# Altium footprint library Battery_PSU.PcbLib: 33 footprints (part 2 of 3)
Each footprint in its own frame and in the unit in brackets; x right, y up, seen from the top. Pads: shape width x height; smd on the part's side, far side on the other; paste and mask are expansions set on the pad; w line width, h text height; cw(c..) or ccw(c..) is an arc to the next point about the centre after c.
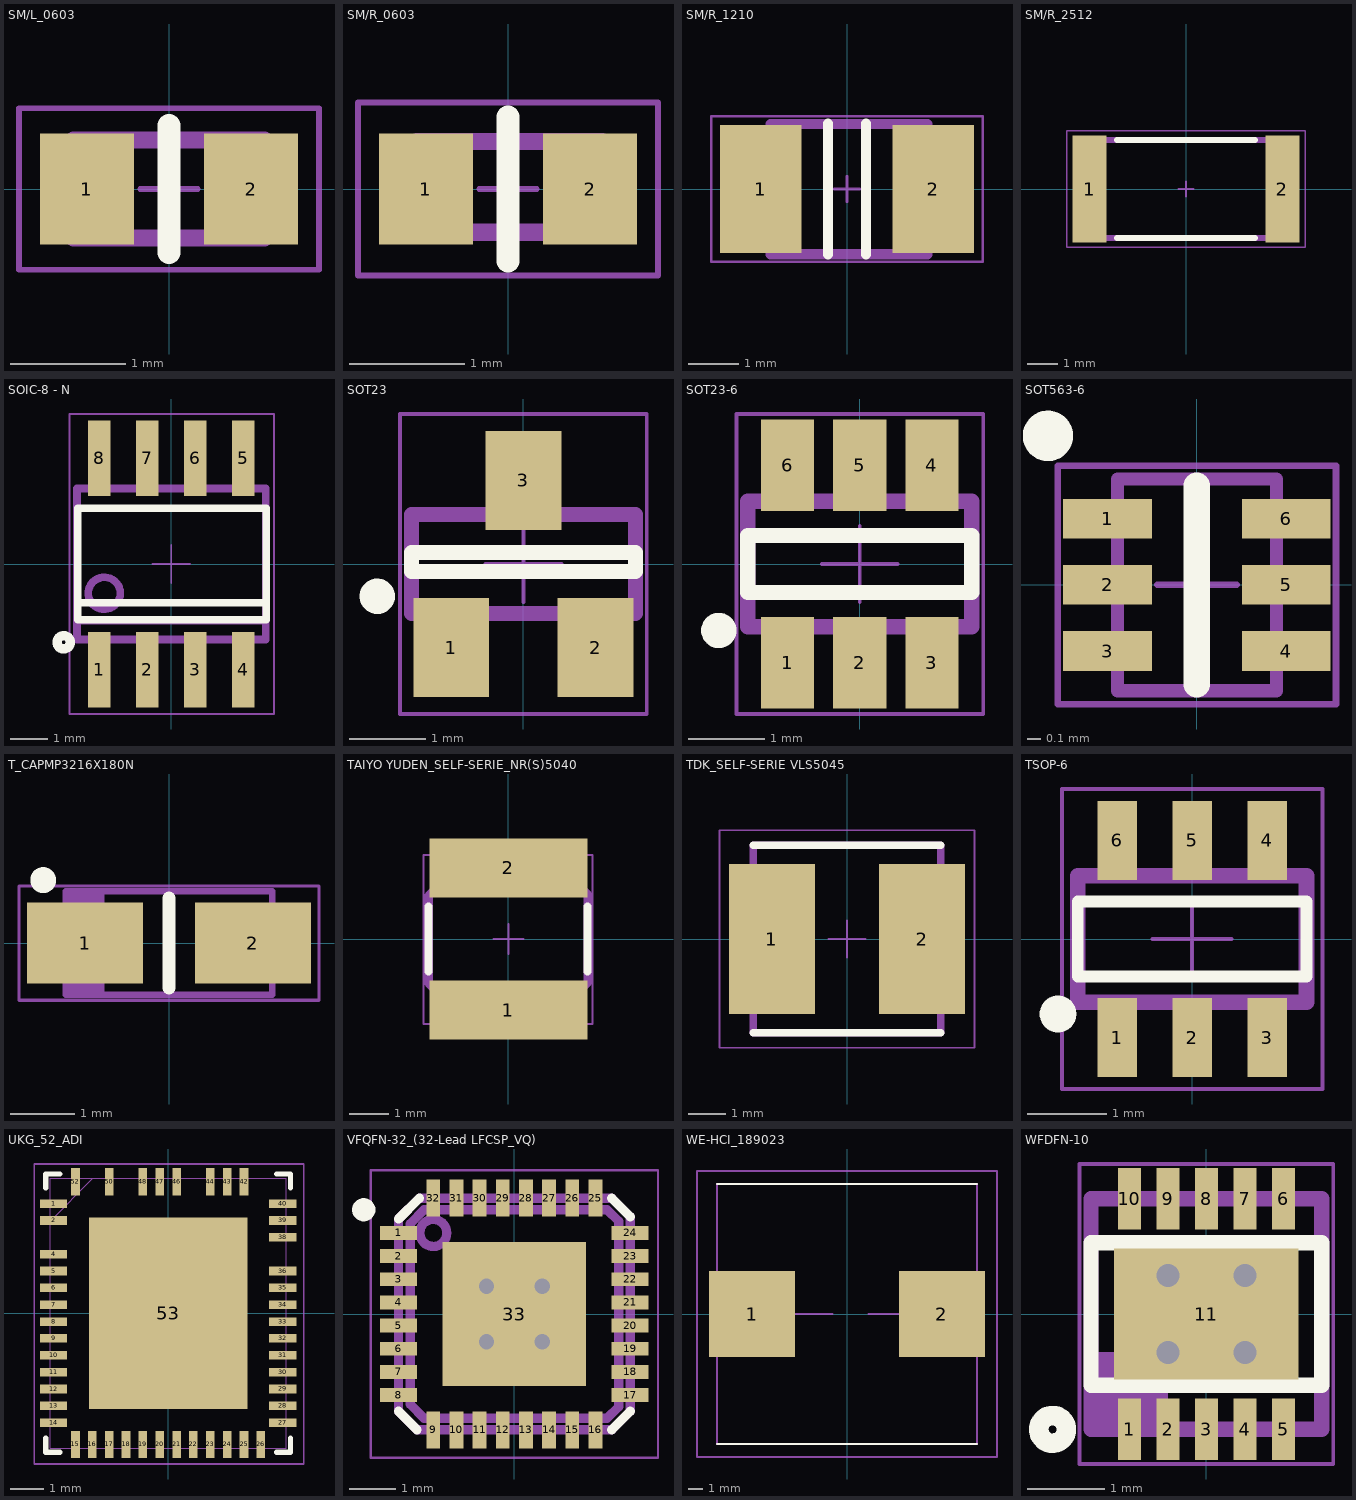
[diagram p1: the footprints below, top view; thin cyan lines are the x and y axes]

## SM/L_0603 [mil]
height 452.76
pads (2):
  rect 32x38 smd: 1(-28,0) 2(28,0)
Top Overlay:
  lines w7.87: 0,-21.65 0,21.65
Mechanical 11:
  lines w5.91: -32.48,-16.73 -32.48,16.73 32.48,16.73 32.48,-16.73 -32.48,-16.73
  text ".designator" at -102.36,36.42 h39.37
Mechanical 13:
  lines w5.91: -32.48,-16.73 32.48,-16.73 32.48,16.73 -32.48,16.73 -32.48,-16.73
Mechanical 15:
  lines w1.97: 0,0 0,9.84 0,0 ; 0,0 -9.84,0 0,0 ; 0,0 9.84,0 0,0 ; 0,0 0,-9.84 0,0 ; -51.18,-27.56 -51.18,27.56 51.18,27.56 51.18,-27.56 -51.18,-27.56
3D body "Chip Inductor 0603 (Noir).stp": height 30.31, standoff -1.18, extent -31.5,-18.7 31.49,18.7

## SM/R_0603 [mil]
height 452.76
pads (2):
  rect 32x38 smd: 1(-28,0) 2(28,0)
Top Overlay:
  lines w7.87: 0,-24.61 0,24.61
Mechanical 11:
  lines w5.91: -30.95,-14.76 -30.95,16.24 32.05,16.24 32.05,-14.76 -30.95,-14.76
  text ".designator" at -102.36,36.42 h39.37
Mechanical 13:
  lines w5.91: -30.95,-14.76 32.05,-14.76 32.05,16.24 -30.95,16.24 -30.95,-14.76
Mechanical 15:
  lines w1.97: 0,0 0,9.84 0,0 ; 0,0 -9.84,0 0,0 ; 0,0 9.84,0 0,0 ; 0,0 0,-9.84 0,0 ; -51.18,-29.53 -51.18,29.53 51.18,29.53 51.18,-29.53 -51.18,-29.53
3D body "User Library-res0603_.STEP": height 20.79, standoff 0.79, extent -30.96,-15.77 32.04,16.23

## SM/R_1210 [mil]
pads (2):
  rect 64x100 smd: 1(-67.5,0) 2(67.5,0)
Top Overlay:
  lines w7.87: -14.76,-51.18 -14.76,51.18 ; 14.76,-51.18 14.76,51.18
Mechanical 11:
  lines w7.87: -60.04,-51.11 -60.04,50.89 63.02,50.89 63.02,-51.11 -60.04,-51.11
  text ".designator" at -110.24,65.94 h39.37
Mechanical 13:
  lines w7.87: -60.04,-51.11 63.02,-51.11 63.02,50.89 -60.04,50.89 -60.04,-51.11
Mechanical 15:
  lines w1.97: 0,0 0,9.84 0,0 ; 0,0 -9.84,0 0,0 ; 0,0 9.84,0 0,0 ; 0,0 0,-9.84 0,0 ; -106.3,-57.09 -106.3,57.09 106.3,57.09 106.3,-57.09 -106.3,-57.09
3D body "User Library-res1210_.STEP": height 24.79, standoff 0.79, extent -62.98,-51.11 63.02,50.89

## SM/R_2512 [mm] "Chip Resistor 2512(6332), Body 6.3x3.2mm, IPC Medium Density"
height 4
pads (2):
  rect 1.1x3.5 smd: 1(-3.15,0) 2(3.15,0)
Top Overlay:
  lines w0.2: -2.25,-1.6 2.25,-1.6 ; -2.25,1.6 2.25,1.6
Mechanical 11:
  lines w0.2: -3.15,-1.6 3.16,-1.6 3.16,1.6 -3.15,1.6 -3.15,-1.6
  text ".designator" at -2.725,-0.325 h1
Mechanical 13:
  lines w0.2: -3.15,-1.6 -3.15,1.6 3.16,1.6 3.16,-1.6 -3.15,-1.6
Mechanical 15:
  lines w0.05: 0,0 0,0.25 0,0 ; 0,0 -0.25,0 0,0 ; 0,0 0.25,0 0,0 ; 0,0 0,-0.25 0,0 ; -3.9,-1.9 3.9,-1.9 3.9,1.9 -3.9,1.9 -3.9,-1.9
3D body "RES2512.step": height 0.62, standoff 0, extent -3.16,-1.6 3.16,1.6

## SOIC-8 - N [mm] "SOIC-8 / Body 5x4x1.75mm / Pitch 1.27mm  / 8 Pins"
height 1.75
pads (8):
  rect 0.6x2 smd: 1(-1.905,-2.8) 2(-0.635,-2.8) 3(0.635,-2.8) 4(1.905,-2.8) 5(1.905,2.8) 6(0.635,2.8) 7(-0.635,2.8) 8(-1.905,2.8)
Top Overlay:
  circle w0.25: c-2.85,-2.075 r0.175
  lines w0.203: -2.425,-1.025 2.475,-1.025 ; -2.48,-1.475 2.52,-1.475 2.52,1.475 -2.48,1.475 -2.48,-1.475
Mechanical 11:
  circle w0.203: c-1.774,-0.775 r0.424
  lines w0.203: -2.495,-1.5 2.5,-1.5 ; -2.5,-2 -2.5,2 2.5,2 2.5,-2 -2.5,-2
  text ".Designator" at -3.6,-0.325 h1
Mechanical 13:
  circle w0.203: c-1.774,-0.775 r0.424
  lines w0.203: -2.495,-1.5 2.5,-1.5 ; -2.5,-2 2.5,-2 2.5,2 -2.5,2 -2.5,-2
Mechanical 15:
  lines w0.05: -0.5,0 0.5,0 ; 0,-0.5 0,0.5 ; -2.7,-3.975 -2.7,3.975 2.725,3.975 2.725,-3.975 -2.7,-3.975
3D body "SOIC-8 - N.STEP": height 1.7, standoff 0, extent -2.45,-3 2.45,3
3D body "SOIC-8 - N.STEP": height 1.7, standoff 0, extent -2.45,-3 2.45,3

## SOT23 [mm] "IC Package SOT23- Body 2.9x1.3x0.95mm"
height 0.95
pads (3):
  rect 1x1.3 smd: 1(-0.95,-1.1) 2(0.95,-1.1) 3(0,1.1)
Top Overlay:
  circle w0.254: c-1.925,-0.425 r0.106
  lines w0.2: -1.475,-0.1 1.475,-0.1 1.475,0.15 -1.475,0.15 -1.475,-0.1
Mechanical 11:
  text ".designator" at -2.96,-0.225 h1
Mechanical 13:
  lines w0.2: -1.475,-0.65 1.475,-0.65 1.475,0.65 -1.475,0.65 -1.475,-0.65
Mechanical 15:
  lines w0.05: -0.5,0 0.5,0 ; 0,-0.5 0,0.5 ; -1.625,-1.975 -1.625,1.975 1.625,1.975 1.625,-1.975 -1.625,-1.975
3D body "SOT23.step": height 1, standoff 0, extent -1.46,-1.17 1.46,1.17

## SOT23-6 [mm] "IC Package SOT23-6- Body 2.9x1.6x1.45mm"
height 1.45
pads (6):
  rect 0.7x1.2 smd: 1(-0.95,-1.3) 2(0,-1.3) 3(0.95,-1.3) 4(0.95,1.3) 5(0,1.3) 6(-0.95,1.3)
Top Overlay:
  circle w0.254: c-1.856,-0.875 r0.106
  lines w0.2: -1.475,-0.375 -1.475,0.375 1.475,0.375 1.475,-0.375 -1.475,-0.375
Mechanical 11:
  text ".designator" at -2.96,-0.225 h1
Mechanical 13:
  lines w0.2: -1.475,-0.825 -1.475,0.825 1.475,0.825 1.475,-0.825 -1.475,-0.825
Mechanical 15:
  lines w0.05: -0.5,0 0.5,0 ; 0,-0.5 0,0.5 ; -1.625,-1.975 1.625,-1.975 1.625,1.975 -1.625,1.975 -1.625,-1.975
3D body "User Library-SOT23-6.STEP": height 1.3, standoff 0, extent -1.5,-1.5 1.5,1.5

## SOT563-6 [mm] "IC Package SOT553-6 - Body 1.6x1.2x0.6mm"
height 0.6
pads (6):
  rect 0.67x0.3 smd: 1(-0.675,0.5) 2(-0.675,0) 3(-0.675,-0.5) 4(0.675,-0.5) 5(0.675,0) 6(0.675,0.5)
Top Overlay:
  circle w0.2: c-1.125,1.125 r0.09
  lines w0.2: 0,-0.75 0,0.75
Mechanical 11:
  lines w0.1: -0.6,-0.8 0.6,-0.8 0.6,0.8 -0.6,0.8 -0.6,-0.8
  text ".designator" at -3.56,-0.35 h1
Mechanical 13:
  lines w0.1: -0.6,-0.8 -0.6,0.8 0.6,0.8 0.6,-0.8 -0.6,-0.8
Mechanical 15:
  lines w0.05: -0.3,0 0.3,0 ; 0,-0.3 0,0.3 ; -1.05,-0.9 -1.05,0.9 1.05,0.9 1.05,-0.9 -1.05,-0.9
3D body "NTZD3154NT1G.stp": height 0.6, standoff 0, extent -0.8,-0.8 0.8,0.8

## T_CAPMP3216X180N [mm]
height 1.6
pads (2):
  rect 1.8x1.25 smd: 1(-1.3,0) 2(1.3,0)
Top Overlay:
  circle w0.3: c-1.95,0.975 r0.05
  lines w0.2: 0,-0.699 0,0.699
Mechanical 11:
  lines w0.1: -1.55,-0.8 -1.55,0.8 ; -1.45,-0.8 -1.45,0.8 ; -1.35,-0.8 -1.35,0.8 ; -1.25,-0.8 -1.25,0.8 ; -1.15,-0.8 -1.15,0.8 ; -1.05,-0.8 -1.05,0.8 ; -1.6,-0.8 -1.6,0.8 1.6,0.8 1.6,-0.8 -1.6,-0.8
Mechanical 13:
  lines w0.001: -1.6,-0.8 -1.6,0.8 1.6,0.8 1.6,-0.8 -1.6,-0.8
Mechanical 15:
  lines w0.05: -2.325,-0.886 2.325,-0.886 2.325,0.886 -2.325,0.886 -2.325,-0.886
3D body: height 1.6, standoff 0, extent -1.6,-0.8 -1,0.8
3D body: height 1.6, standoff 0, extent -1,-0.8 1.6,0.8

## TAIYO YUDEN_SELF-SERIE_NR(S)5040 [mm] "INDUCTOR TAIYO YUDEN SERIES NR(S)5040 SMD"
height 4.1
pads (2):
  rect 4x1.5 smd: 1(0,-1.8) 2(0,1.8)
Top Overlay:
  lines w0.2: -2.025,-0.825 -2.025,0.825 ; 2,-0.825 2,0.825
Mechanical 11:
  lines w0.2: -2.012,-1.125 -2.012,1.1 -1.487,1.625 -1.487,2 1.488,2 1.488,1.65 2.013,1.125 2.013,-1.1 1.513,-1.6 1.513,-2 -1.487,-2 -1.487,-1.65 -2.012,-1.125
  text ".designator" at -2.8,-0.35 h1
Mechanical 13:
  lines w0.2: -2.025,-1.125 -2.025,1.1 -1.5,1.625 -1.5,2 1.475,2 1.475,1.65 2,1.125 2,-1.1 1.5,-1.6 1.5,-2 -1.5,-2 -1.5,-1.65 -2.025,-1.125
Mechanical 15:
  lines w0.05: -0.375,0 0.375,0 ; 0,-0.375 0,0.375 ; -2.15,-2.15 2.125,-2.15 2.125,2.125 -2.15,2.125 -2.15,-2.15
3D body: height 0.25, standoff 0, extent -2.025,-2 2,2

## TDK_SELF-SERIE VLS5045 [mm]
pads (2):
  rect 2.3x4 smd: 1(-2,0) 2(2,0)
Top Overlay:
  lines w0.2: -2.5,-2.5 2.5,-2.5 ; -2.5,2.5 2.5,2.5
Mechanical 11:
  lines w0.2: -2.5,-2.5 -2.5,2.5 2.5,2.5 2.5,-2.5 -2.5,-2.5
  text ".designator" at -4.45,-0.45 h1
Mechanical 13:
  lines w0.2: -2.5,-2.5 -2.5,2.5 2.5,2.5 2.5,-2.5 -2.5,-2.5
Mechanical 15:
  lines w0.05: -0.5,0 0.5,0 ; 0,-0.5 0,0.5 ; -3.4,-2.9 -3.4,2.9 3.4,2.9 3.4,-2.9 -3.4,-2.9
3D body "VLS5045EX-2R2N.stp": height 4.5, standoff 0, extent -2.5,-2.5 2.5,2.5

## TSOP-6 [mm] "IC Package SC70-6 (SOT363) - Body 2x1.25x1.1mm"
height 1.1
pads (6):
  rect 0.5x1 smd: 1(-0.95,-1.25) 2(0,-1.25) 3(0.95,-1.25) 4(0.95,1.25) 5(0,1.25) 6(-0.95,1.25)
Top Overlay:
  circle w0.254: c-1.7,-0.95 r0.106
  lines w0.15: -1.45,-0.475 -1.45,0.475 1.45,0.475 1.45,-0.475 -1.45,-0.475
Mechanical 11:
  lines w0.2: -1.45,-0.8 -1.45,0.8 1.45,0.8 1.45,-0.8 -1.45,-0.8
  text ".designator" at -2.925,-0.325 h1
Mechanical 13:
  lines w0.2: -1.45,-0.8 1.45,-0.8 1.45,0.8 -1.45,0.8 -1.45,-0.8
Mechanical 15:
  lines w0.05: -0.5,0 0.5,0 ; 0,-0.5 0,0.5 ; -1.65,-1.9 -1.65,1.9 1.65,1.9 1.65,-1.9 -1.65,-1.9
3D body "User Library-TSOP-6.STEP": height 1, standoff 0, extent -1.5,-1.35 1.5,1.35

## UKG_52_ADI [mm]
pads (47):
  rect 0.808x0.255 smd paste+0 mask+0: 1(-3.401,3.25) 2(-3.401,2.75) 4(-3.401,1.75) 5(-3.401,1.25) 6(-3.401,0.75) 7(-3.401,0.25) 8(-3.401,-0.25) 9(-3.401,-0.75) 10(-3.401,-1.25) 11(-3.401,-1.75) 12(-3.401,-2.25) 13(-3.401,-2.75) 14(-3.401,-3.25) 27(3.401,-3.25) 28(3.401,-2.75) 29(3.401,-2.25) 30(3.401,-1.75) 31(3.401,-1.25) 32(3.401,-0.75) 33(3.401,-0.25) 34(3.401,0.25) 35(3.401,0.75) 36(3.401,1.25) 38(3.401,2.25) 39(3.401,2.75) 40(3.401,3.25)
  rect 0.255x0.808 smd paste+0 mask+0: 15(-2.75,-3.896) 16(-2.25,-3.896) 17(-1.75,-3.896) 18(-1.25,-3.896) 19(-0.75,-3.896) 20(-0.25,-3.896) 21(0.25,-3.896) 22(0.75,-3.896) 23(1.25,-3.896) 24(1.75,-3.896) 25(2.25,-3.896) 26(2.75,-3.896) 42(2.25,3.896) 43(1.75,3.896) 44(1.25,3.896) 46(0.25,3.896) 47(-0.25,3.896) 48(-0.75,3.896) 50(-1.75,3.896) 52(-2.75,3.896)
  rect 4.699x5.69 smd paste-2.832 mask+0: 53(0,0)
Top Overlay:
  lines w0.152: -3.632,-3.71 -3.632,-4.127 -3.21,-4.127 ; -3.632,3.71 -3.632,4.127 -3.21,4.127 ; 3.21,-4.127 3.632,-4.127 3.632,-3.71 ; 3.21,4.127 3.632,4.127 3.632,3.71
Top Paste:
  region: 2.25,-1.522 0.883,-1.522 0.883,-2.745 2.25,-2.745
  region: 2.25,-0.1 0.883,-0.1 0.883,-1.322 2.25,-1.322
  region: 2.25,1.322 0.883,1.322 0.883,0.1 2.25,0.1
  region: 2.25,2.745 0.883,2.745 0.883,1.522 2.25,1.522
  region: 0.683,-1.522 -0.683,-1.522 -0.683,-2.745 0.683,-2.745
  region: 0.683,-0.1 -0.683,-0.1 -0.683,-1.322 0.683,-1.322
  region: 0.683,1.322 -0.683,1.322 -0.683,0.1 0.683,0.1
  region: 0.683,2.745 -0.683,2.745 -0.683,1.522 0.683,1.522
  region: -0.883,-1.522 -2.25,-1.522 -2.25,-2.745 -0.883,-2.745
  region: -0.883,-0.1 -2.25,-0.1 -2.25,-1.322 -0.883,-1.322
  region: -0.883,1.322 -2.25,1.322 -2.25,0.1 -0.883,0.1
  region: -0.883,2.745 -2.25,2.745 -2.25,1.522 -0.883,1.522
Mechanical 11:
  text ".designator" at -2.175,-0.325 h1
Mechanical 13:
  lines w0.025: -3.505,2.73 -2.235,4 ; -3.505,-4 -3.505,4 3.505,4 3.505,-4 -3.505,-4 ; -3.505,-3.402 -3.505,-3.098 -3.505,-3.402 ; -3.505,-2.902 -3.505,-2.598 -3.505,-2.902 ; -3.505,-2.402 -3.505,-2.098 -3.505,-2.402 ; -3.505,-1.902 -3.505,-1.598 -3.505,-1.902 ; -3.505,-1.402 -3.505,-1.098 -3.505,-1.402 ; -3.505,-0.902 -3.505,-0.598 -3.505,-0.902 ; -3.505,-0.402 -3.505,-0.098 -3.505,-0.402 ; -3.505,0.098 -3.505,0.402 -3.505,0.098 ; -3.505,0.598 -3.505,0.902 -3.505,0.598 ; -3.505,1.098 -3.505,1.402 -3.505,1.098 ; -3.505,1.598 -3.505,1.902 -3.505,1.598 ; -3.505,2.098 -3.505,2.402 -3.505,2.098 ; -3.505,2.598 -3.505,2.902 -3.505,2.598 ; -3.505,3.098 -3.505,3.402 -3.505,3.098 ; -2.902,-4 -2.598,-4 -2.902,-4 ; -2.902,4 -2.598,4 -2.902,4 ; -2.402,-4 -2.098,-4 -2.402,-4 ; -2.402,4 -2.098,4 -2.402,4 ; -1.902,-4 -1.598,-4 -1.902,-4 ; -1.902,4 -1.598,4 -1.902,4 ; -1.402,-4 -1.098,-4 -1.402,-4 ; -1.402,4 -1.098,4 -1.402,4 ; -0.902,-4 -0.598,-4 -0.902,-4 ; -0.902,4 -0.598,4 -0.902,4 ; -0.402,-4 -0.098,-4 -0.402,-4 ; -0.402,4 -0.098,4 -0.402,4 ; 0.098,-4 0.402,-4 0.098,-4 ; 0.098,4 0.402,4 0.098,4 ; 0.598,-4 0.902,-4 0.598,-4 ; 0.598,4 0.902,4 0.598,4 ; 1.098,-4 1.402,-4 1.098,-4 ; 1.098,4 1.402,4 1.098,4 ; 1.598,-4 1.902,-4 1.598,-4 ; 1.598,4 1.902,4 1.598,4 ; 2.098,-4 2.402,-4 2.098,-4 ; 2.098,4 2.402,4 2.098,4 ; 2.598,-4 2.902,-4 2.598,-4 ; 2.598,4 2.902,4 2.598,4 ; 3.505,-3.402 3.505,-3.098 3.505,-3.402 ; 3.505,-2.902 3.505,-2.598 3.505,-2.902 ; 3.505,-2.402 3.505,-2.098 3.505,-2.402 ; 3.505,-1.902 3.505,-1.598 3.505,-1.902 ; 3.505,-1.402 3.505,-1.098 3.505,-1.402 ; 3.505,-0.902 3.505,-0.598 3.505,-0.902 ; 3.505,-0.402 3.505,-0.098 3.505,-0.402 ; 3.505,0.098 3.505,0.402 3.505,0.098 ; 3.505,0.598 3.505,0.902 3.505,0.598 ; 3.505,1.098 3.505,1.402 3.505,1.098 ; 3.505,1.598 3.505,1.902 3.505,1.598 ; 3.505,2.098 3.505,2.402 3.505,2.098 ; 3.505,2.598 3.505,2.902 3.505,2.598 ; 3.505,3.098 3.505,3.402 3.505,3.098
Mechanical 15:
  lines w0.05: -3.975,-4.475 -3.975,4.425 4.025,4.425 4.025,-4.475 -3.975,-4.475
3D body "UKG_52_ADI.step": height 0.81, standoff 0, extent -3.5,-4 3.51,4
3D body: height 0.25, standoff 0, extent 0,0 0.254,0.254

## VFQFN-32_(32-Lead LFCSP_VQ) [mm] "IC Package VQFQFN-32 (32-Lead LFCSP_VQ)"
height 0.85
pads (33):
  rect 0.8x0.3 smd mask+0.1: 1(-2.5,1.75) 2(-2.5,1.25) 3(-2.5,0.75) 4(-2.5,0.25) 5(-2.5,-0.25) 6(-2.5,-0.75) 7(-2.5,-1.25) 8(-2.5,-1.75) 17(2.5,-1.75) 18(2.5,-1.25) 19(2.5,-0.75) 20(2.5,-0.25) 21(2.5,0.25) 22(2.5,0.75) 23(2.5,1.25) 24(2.5,1.75)
  rect 0.3x0.8 smd mask+0.1: 9(-1.75,-2.5) 10(-1.25,-2.5) 11(-0.75,-2.5) 12(-0.25,-2.5) 13(0.25,-2.5) 14(0.75,-2.5) 15(1.25,-2.5) 16(1.75,-2.5) 25(1.75,2.5) 26(1.25,2.5) 27(0.75,2.5) 28(0.25,2.5) 29(-0.25,2.5) 30(-0.75,2.5) 31(-1.25,2.5) 32(-1.75,2.5)
  rect 3.1x3.1 smd paste-2 mask+0.1: 33(0,0)
via -0.6,0.6 diameter 0.6 hole 0.33
via 0.6,0.6 diameter 0.6 hole 0.33
via -0.6,-0.6 diameter 0.6 hole 0.33
via 0.6,-0.6 diameter 0.6 hole 0.33
Top Overlay:
  circle w0.25: c-3.25,2.25 r0.125
  lines w0.2: -2.5,-2.1 -2.1,-2.5 ; -2.5,2.05 -2.05,2.5 ; 2.1,-2.5 2.5,-2.1 ; 2.1,2.5 2.5,2.1
Top Paste:
  region: -0.15,-1.35 -0.15,-0.15 -1.35,-0.15 -1.35,-1.35
  region: 0.15,1.35 0.15,0.15 1.35,0.15 1.35,1.35
  region: 0.15,-1.35 0.15,-0.15 1.35,-0.15 1.35,-1.35
  region: -0.15,1.35 -0.15,0.15 -1.35,0.15 -1.35,1.35
Mechanical 11:
  circle w0.2: c-1.75,1.75 r0.292
  lines w0.2: -2.5,-2.1 -2.5,2.05 -2.05,2.5 2.1,2.5 2.5,2.1 2.5,-2.1 2.1,-2.5 -2.1,-2.5 -2.5,-2.1 ; -2.25,-1.95 -2.25,1.95 -1.95,2.25 2,2.25 2.25,2 2.25,-2 2,-2.25 -1.95,-2.25 -2.25,-1.95
  text ".Designator" at -3,-0.3 h1
Mechanical 13:
  circle w0.2: c-1.75,1.75 r0.292
  lines w0.2: -2.5,-2.1 -2.1,-2.5 2.1,-2.5 2.5,-2.1 2.5,2.1 2.1,2.5 -2.05,2.5 -2.5,2.05 -2.5,-2.1 ; -2.25,-1.95 -1.95,-2.25 2,-2.25 2.25,-2 2.25,2 2,2.25 -1.95,2.25 -2.25,1.95 -2.25,-1.95
Mechanical 15:
  lines w0.05: -0.5,0 0.5,0 ; 0,-0.5 0,0.5 ; -3.1,-3.1 -3.1,3.1 3.1,3.1 3.1,-3.1 -3.1,-3.1
3D body "VFQFN-32_(32-Lead LFCSP_VQ).stp": height 1.01, standoff -0.05, extent -2.5,-2.5 2.5,2.5

## WE-HCI_189023 [mm]
pads (2):
  rect 6x6 smd: 1(-6.65,0) 2(6.65,0)
Top Overlay:
  lines w0.127: -9.1,-9.1 9.1,-9.1 ; -9.1,9.1 9.1,9.1
Mechanical 13:
  lines w0.127: -9.1,-9.1 -9.1,9.1 ; -6.5,0 -1,0 ; 1.5,0 6,0 ; 9.1,-9.1 9.1,9.1
Mechanical 15:
  lines w0.127: -10.5,-10 -10.5,10 10.5,10 10.5,-10 -10.5,-10
3D body "7443556082_Download_STP_WE-HCI-1890_WE-PERM2_rev1.stp": height 8.95, standoff 0.05, extent -9.15,-9.056 9.15,9.144

## WFDFN-10 [mm]
height 0.75
pads (11):
  rect 0.3x0.8 smd: 1(-1,-1.5) 2(-0.5,-1.5) 3(0,-1.5) 4(0.5,-1.5) 5(1,-1.5) 6(1,1.5) 7(0.5,1.5) 8(0,1.5) 9(-0.5,1.5) 10(-1,1.5)
  rect 2.4x1.7 smd: 11(0,0)
via 0.5,-0.5 diameter 0.6 hole 0.3
via -0.5,-0.5 diameter 0.6 hole 0.3
via -0.5,0.5 diameter 0.6 hole 0.3
via 0.5,0.5 diameter 0.6 hole 0.3
Top Overlay:
  circle w0.254: c-2,-1.5 r0.18
  lines w0.2: -1.5,-0.925 -1.5,0.925 1.5,0.925 1.5,-0.925 -1.5,-0.925
Mechanical 11:
  region: -1.4,-0.5 -0.5,-0.5 -0.5,-1.4 -1.4,-1.4
  lines w0.2: -1.5,-1.5 -1.5,1.5 1.5,1.5 1.5,-1.5 -1.5,-1.5
  text ".designator" at -5.36,-0.175 h1
Mechanical 13:
  region: -1.4,-0.5 -0.5,-0.5 -0.5,-1.4 -1.4,-1.4
  lines w0.2: -1.5,-1.5 1.5,-1.5 1.5,1.5 -1.5,1.5 -1.5,-1.5
Mechanical 15:
  lines w0.05: -0.4,0 0,0 ; 0,-0.4 0,0 ; 0,0.4 0,0 ; 0.4,0 0,0 ; -1.65,-1.95 1.65,-1.95 1.65,1.95 -1.65,1.95 -1.65,-1.95
3D body: height 0.8, standoff 0, extent -1.5,-1.55 1.5,1.5